# Altium schematic symbol library FT232RQ.SchLib: 1 symbol
Pins are listed as number, name and electrical type; pins without a type are passive.

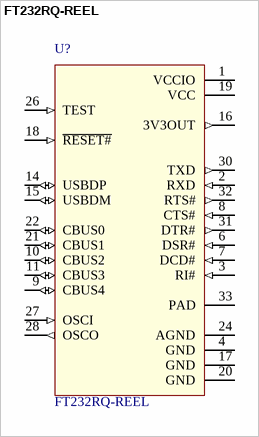
[diagram p0: symbol FT232RQ-REEL]

## FT232RQ-REEL
designator U?
USB Full Speed to Serial UART IC, Includes Oscillator and EEPROM - QFN-32; MF: FTDI,; SnapEDA_Link: https://www.snapeda.com/parts/FT232RQ-REEL/FTDI%2C%20Future%20Technology%20Devices%20International%20Ltd/view-part/?ref=snap; Digi-Key_Part_Number: 768-1008-1-ND; MP: FT232RQ-REEL; Digi-Key_Purchase_URL: https://www.digikey.com/product-detail/en/ftdi-future-technology-devices-international-ltd/FT232RQ-REEL/768-1008-1-ND/1836403?utm_source=snapeda&utm_medium=aggregator&utm_campaign=symbol; Package: QFN-32 FTDI; Value: *
footprint QFN-32
pins: 1 VCCIO (power), 2 RXD (in), 3 RI# (in), 4 GND (power), 6 DSR# (in), 7 DCD# (in), 8 CTS# (in), 9 CBUS4 (io), 10 CBUS2 (io), 11 CBUS3 (io), 14 USBDP (io), 15 USBDM (io), 16 3V3OUT (out), 17 GND (power), 18 ~{RESET#} (in), 19 VCC (power), 20 GND (power), 21 CBUS1 (io), 22 CBUS0 (io), 24 AGND (power), 26 TEST (in), 27 OSCI (in), 28 OSCO (out), 30 TXD (out), 31 DTR# (out), 32 RTS# (out), 33 PAD